# EAGLE library part WS2812 (library LED)
Intelligent control LED integrated light source Datasheet <https://www.adafruit.com/datasheets/WS2812.pdf>
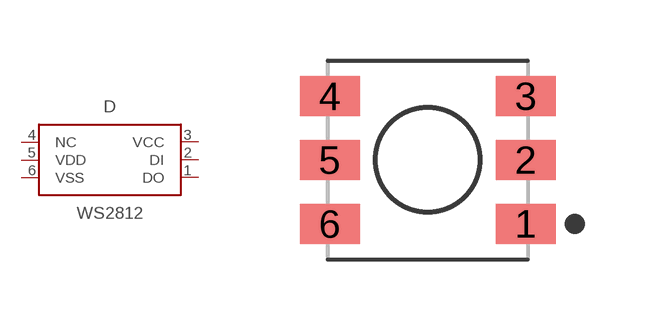
[diagram p0: symbol with the pads of WS2812; footprint WS2812]

Designator prefix D

## WS2812 (CATEGORY: LED; COLOR: RGB; DESCRIPTION: LED integrated light source; MANUFACTURER: Worldsemi; MPN: WS2812; PART_STATUS: ACTIVE; SERIES: WS2812; SUB_CATEGORY: RGB)  [WS2812]
1  DO  out
2  DI  in
3  VCC  pwr
4  NC  nc
5  VDD  pwr
6  VSS  pwr

## Footprint WS2812 (pad centres in mm)
WS2812
smd 1.5 x 1: 1 2.45,-1.6; 2 2.45,0; 3 2.45,1.6; 4 -2.45,1.6; 5 -2.45,0; 6 -2.45,-1.6